# Altium schematic symbol library ICS_DIVERSOS.SchLib: 9 symbols
Pins are listed as number, name and electrical type; pins without a type are passive.

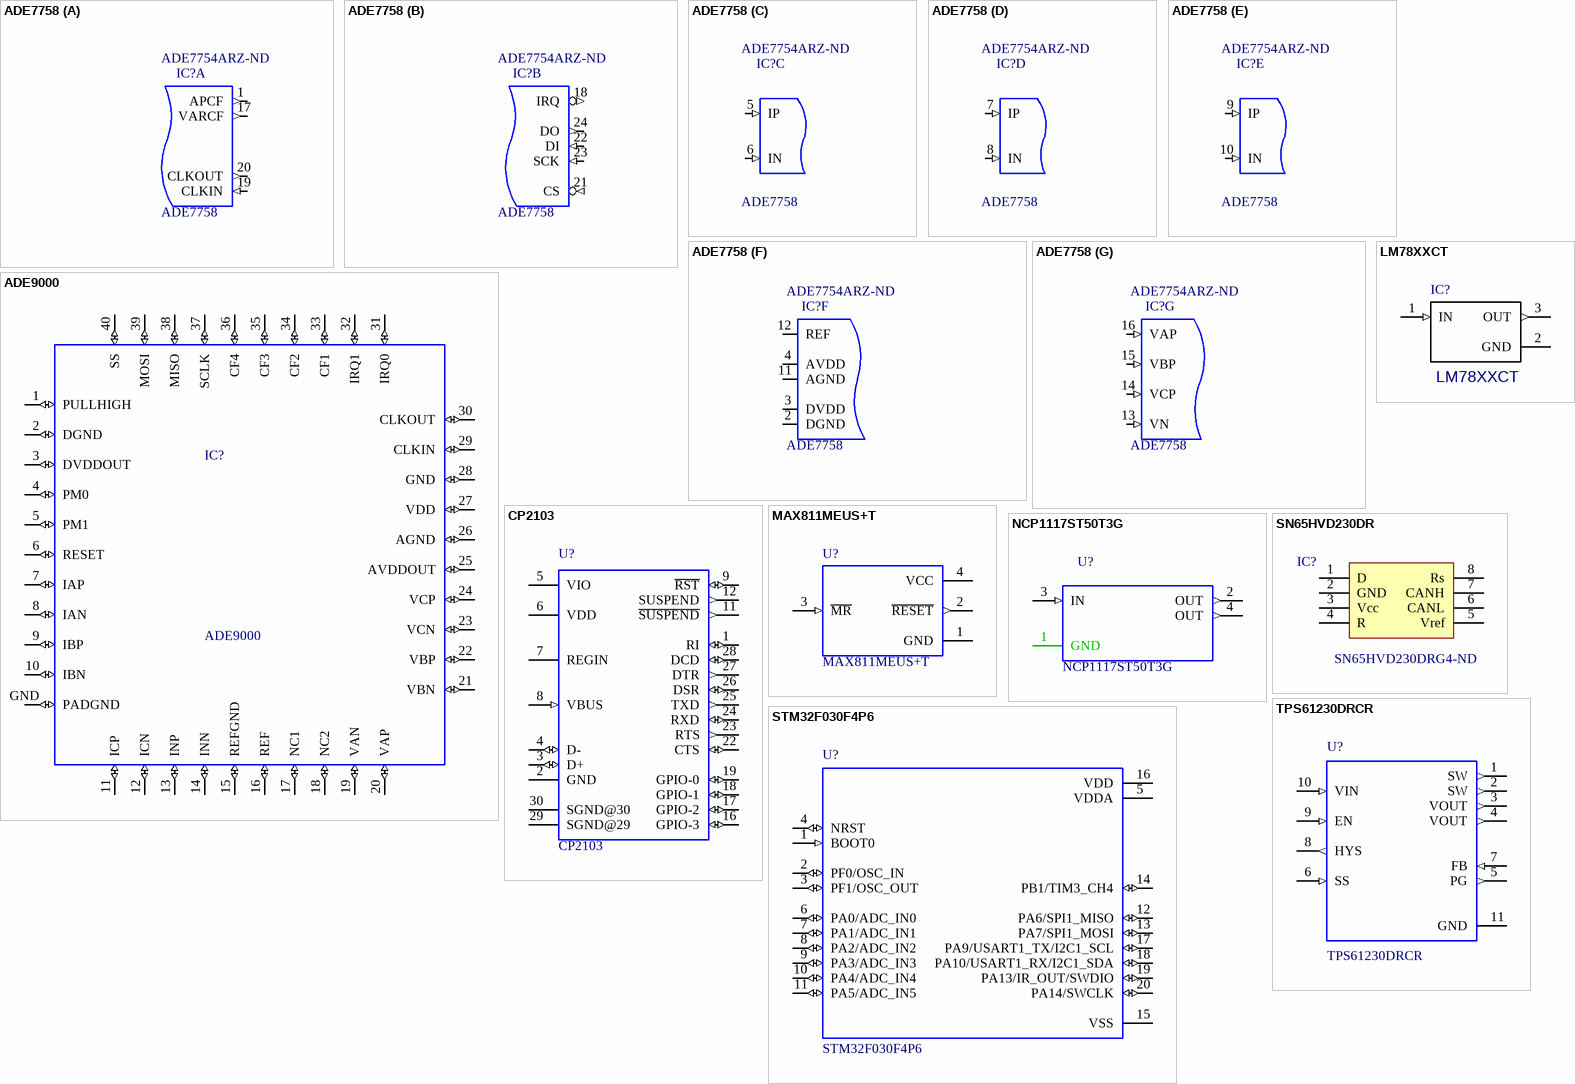
[diagram p0: symbols ADE7758 to TPS61230DRCR]

## ADE7758
designator IC?  Supplier Part Number 1: ADE7754ARZ-ND
MF: ADI Electronics; Availability: Unavailable; Package: None; MP: ADE7758; SnapEDA_Link: https://www.snapeda.com/parts/ADE7758/ADI%20Electronics/view-part/?ref=snap; Price: None; Value: *; Supplier 1: Digi-Key
footprint SOIC24
part A pins: 1 APCF (out), 17 VARCF (out), 19 CLKIN (in), 20 CLKOUT (out)
part B pins: 18 IRQ (out), 21 CS (in), 22 DI (in), 23 SCK (in), 24 DO (out)
part C pins: 5 IP (in), 6 IN (in)
part D pins: 7 IP (in), 8 IN (in)
part E pins: 9 IP (in), 10 IN (in)
part F pins: 2 DGND (power), 3 DVDD (power), 4 AVDD (power), 11 AGND (power), 12 REF (io)
part G pins: 13 VN (in), 14 VCP (in), 15 VBP (in), 16 VAP (in)

## ADE9000
designator IC?
ADI IC, Power Quality Monitoring AFE; MF: Analog Devices; Availability: Unavailable; Package: None; SnapEDA_Link: https://www.snapeda.com/parts/ADE9000/Analog%20Devices/view-part/?ref=snap; MP: ADE9000; Price: None; Value: *
footprint LFCSP40
pins: 1 PULLHIGH (io), 2 DGND (io), 3 DVDDOUT (io), 4 PM0 (io), 5 PM1 (io), 6 RESET (io), 7 IAP (io), 8 IAN (io), 9 IBP (io), 10 IBN (io), 11 ICP (io), 12 ICN (io), 13 INP (io), 14 INN (io), 15 REFGND (io), 16 REF (io), 17 NC1 (io), 18 NC2 (io), 19 VAN (io), 20 VAP (io), 21 VBN (io), 22 VBP (io), 23 VCN (io), 24 VCP (io), 25 AVDDOUT (io), 26 AGND (io), 27 VDD (io), 28 GND (io), 29 CLKIN (io), 30 CLKOUT (io), 31 IRQ0 (io), 32 IRQ1 (io), 33 CF1 (io), 34 CF2 (io), 35 CF3 (io), 36 CF4 (io), 37 SCLK (io), 38 MISO (io), 39 MOSI (io), 40 SS (io), GND PADGND (io)

## CP2103
designator U?
USB to UART Bridge; MF: Silicon Labs; Availability: Unavailable; Package: None; MP: CP2103; SnapEDA_Link: https://www.snapeda.com/parts/CP2103/Silicon%20Labs/view-part/?ref=snap; Price: None; Value: *
footprint QFN28
pins: 1 RI (io), 2 GND (power), 3 D+ (io), 4 D- (io), 5 VIO (power), 6 VDD (power), 7 REGIN (power), 8 VBUS (in), 9 ~{RST} (io), 11 ~{SUSPEND} (out), 12 SUSPEND (out), 16 GPIO-3 (io), 17 GPIO-2 (io), 18 GPIO-1 (io), 19 GPIO-0 (io), 22 CTS (io), 23 RTS (out), 24 RXD (io), 25 TXD (out), 26 DSR (io), 27 DTR (out), 28 DCD (io), 29 SGND@29 (power), 30 SGND@30 (power)

## LM78XXCT
designator IC?, comment MP: LM78XXCT  (hidden comment: LM7805CT/NOPB)
1.0 A Positive Voltage / Regulators; MF: ON Semiconductor; Package: TO-220 ON Semiconductor; SnapEDA_Link: https://www.snapeda.com/parts/LM7805CT/ON%20Semiconductor/view-part/?ref=snap; Price: None; Availability: Unavailable; Value: *
footprint TO-220 (PTH 3 PINOS)
pins: 1 IN (in), 2 GND (power), 3 OUT (out)

## MAX811MEUS+T
designator U?
MAX811 Series 4.3 to 4.46 V 560 ms Push Pull Microprocessor Supervisor - SOT-143; MF: Maxim Integrated; MP: MAX811MEUS+T; Package: SOT-143 Maxim Integrated; Availability: Unavailable; SnapEDA_Link: https://www.snapeda.com/parts/MAX811MEUS%2BT/Maxim%20Integrated/view-part/?ref=snap; Price: None; Value: *
footprint SOT143-4P
pins: 1 GND (power), 2 ~{RESET} (out), 3 ~{MR} (in), 4 VCC (power)

## NCP1117ST50T3G
designator U?
MF: ON Semiconductor; Price: None; Package: SOT 223; SnapEDA_Link: https://www.snapeda.com/parts/NCP1117ST50T3G/ON%20Semiconductor/view-part/?ref=snap; MP: NCP1117ST50T3G; Availability: Unavailable; Value: *
footprint SOT223
pins: 1 GND (power), 2 OUT (out), 3 IN (in), 4 OUT (out)

## SN65HVD230DR
designator IC?  Supplier Part Number 1: SN65HVD230DRG4-ND
1/1 Transceiver Half CANbus 8-SOIC; Supplier 1: Digi-Key
pins: 1 D, 2 GND, 3 Vcc, 4 R, 5 Vref, 6 CANL, 7 CANH, 8 Rs

## STM32F030F4P6
designator U?
MCU 32-bit STM32F ARM Cortex M0 RISC 16KB Flash 2.5V/3.3V 20-Pin TSSOP Tray; MF: STMicroelectronics; Availability: Unavailable; Package: TSSOP-20 STMicroelectronics; MP: STM32F030F4P6; SnapEDA_Link: https://www.snapeda.com/parts/STM32F030F4P6/STMicroelectronics/view-part/?ref=snap; Price: None; Value: *
footprint TSSOP 20
pins: 1 BOOT0 (in), 2 PF0/OSC_IN (io), 3 PF1/OSC_OUT (io), 4 NRST (io), 5 VDDA (power), 6 PA0/ADC_IN0 (io), 7 PA1/ADC_IN1 (io), 8 PA2/ADC_IN2 (io), 9 PA3/ADC_IN3 (io), 10 PA4/ADC_IN4 (io), 11 PA5/ADC_IN5 (io), 12 PA6/SPI1_MISO (io), 13 PA7/SPI1_MOSI (io), 14 PB1/TIM3_CH4 (io), 15 VSS (power), 16 VDD (power), 17 PA9/USART1_TX/I2C1_SCL (io), 18 PA10/USART1_RX/I2C1_SDA (io), 19 PA13/IR_OUT/SWDIO (io), 20 PA14/SWCLK (io)

## TPS61230DRCR
designator U?
High Efficiency Synchronous Boost Converter With 5-A Switch 10-VSON -40 to 85; MF: Texas Instruments; Package: VFDFN-10 Texas Instruments; MP: TPS61230DRCR; SnapEDA_Link: https://www.snapeda.com/parts/TPS61230DRCR/Texas%20Instruments/view-part/?ref=snap; Price: None; Availability: Unavailable; Value: *
footprint 10-VSON_3X3
pins: 1 SW (out), 2 SW (out), 3 VOUT (out), 4 VOUT (out), 5 PG (out), 6 SS (in), 7 FB (in), 8 HYS (out), 9 EN (in), 10 VIN (in), 11 GND (power)